# Altium schematic symbol library Transistors.SchLib: 8 symbols
Pins are listed as number, name and electrical type; pins without a type are passive.

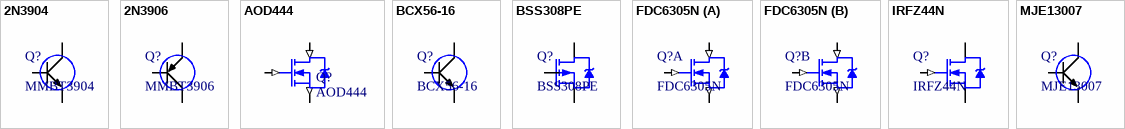
[diagram p0: symbols 2N3904 to MJE13007]

## 2N3904
designator Q?, comment MMBT3904
NPN General Purpose Transistor; Collector-Emitter Voltage: 40V; Collector-Base Voltage: 60V; Collector Current - Continuous: 200mA; DC Current Gain: 300
footprint SOT23
simulation model 2N3904 (Model Generated by MODPEX)
pins: 1 B, 2 E, 3 C

## 2N3906
designator Q?, comment MMBT3906
PNP General Purpose Transistor; Collector-Emitter Voltage: -40V; Collector-Base Voltage: -60V; Collector Current - Continuous: 200mA; DC Current Gain: 300
footprint SOT23
simulation model 2N3906 (Model Generated by MODPEX)
pins: 1 B, 2 E, 3 C

## AOD444
designator Q?
HEXFET Power MOSFET; Vds: 60V; Id: 12A; Rds: 60mOhm; Ciss: 450pF
footprint TO-252 (D-PAK, 3-Pads, Body 6,21x6,61mm (max), IPC Medium Density)
pins: 1 G (in), 2 D (in), 3 S (out)

## BCX56-16
designator Q?
NPN medium power transistor; collector current: 1A; collector-emitter voltage: 80V; DC current gain: 250
footprint SOT89-150P409X160-3N (SOT89, 3-Leads, Body 4,50x2,50mm, Pitch 1,50mm, Lead Span 4,1mm, IPC Medium Density)
pins: 1 E, 2 C, 3 B

## BSS308PE
designator Q?
OptiMOS™ P3 Small-Signal-Transistor; Vds: -30V; Rds: 80mOhm; Id: -2A
footprint SOT23 (SOT23, 3-Leads, Body 2,90x2,80mm, Pitch 0,95mm, IPC Medium Density)
pins: 1, 2, 3

## FDC6305N
designator Q?
Dual N-Channel 2.5V Specified PowerTrenchTM MOSFET; Vdss: 20V; Vgss: 8V; Id: 2.7(8.0)A; Rds: 0.06 ~ 0.12
footprint SOT23-6 (SOT23, 6-Leads, Body 2,90x2,80mm, Pitch 0,95mm, IPC Medium Density)
part A pins: 1 G1 (in), 5 S1 (out), 6 D1 (in)
part B pins: 2 S2 (out), 3 G2 (in), 4 D2 (in)

## IRFZ44N
designator Q?
N-Channel MOSFET Transistor; VDSS: 55V; ID: 49A
footprint TO-220-3 (TO-220-3 Vertical standing)
footprint TO-220-3 H (TO-220-3 Horisontal screwed)
footprint TO-263
pins: 1 G (in), 2 D, 3 S

## MJE13007
designator Q?
Switch-mode NPN Bipolar  Power Transistor; Vceo: 400V; Vces: 700V; Vebo: 9V; Ic: 8A; hfe: 30-40; Fmax: 14MHz
footprint TO-220-3 (TO-220-3 Vertical standing)
simulation model QMJE13007 (Model Generated by MODPEX)
footprint TO-220-3 H (TO-220-3 Horisontal screwed)
pins: 1 B, 2 C, 3 E